# Altium schematic symbol library h_bridge.SchLib: 3 symbols
Pins are listed as number, name and electrical type; pins without a type are passive.

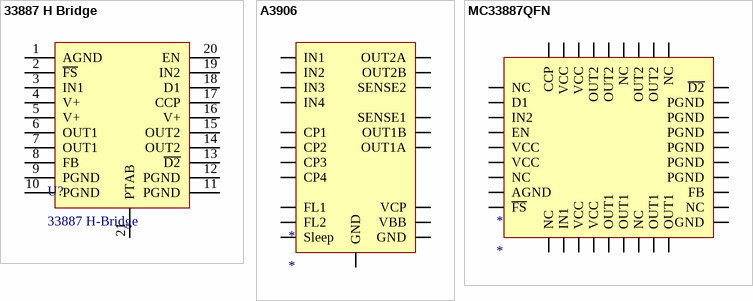
[diagram p0: symbols 33887 H Bridge to MC33887QFN]

## 33887 H Bridge
designator U?, comment 33887 H-Bridge
H-Bridge
footprint MC33887 (SOP, 20-Leads, Body 15.90x11.00mm, Pitch 1.27mm, Thermal Pad 12.60x7.20mm, IPC Medium Density)
pins: 1 AGND, 2 ~{FS}, 3 IN1, 4 V+, 5 V+, 6 OUT1, 7 OUT1, 8 FB, 9 PGND, 10 PGND, 11 PGND, 12 PGND, 13 ~{D2}, 14 OUT2, 15 OUT2, 16 V+, 17 CCP, 18 D1, 19 IN2, 20 EN, 21 PTAB

## A3906
designator *
footprint A3906-QFN
pins: 1 CP2, 2 GND, 3 Sleep, 4 IN1, 5 IN2, 6 IN3, 7 IN4, 8 FL1, 9 FL2, 10 OUT2A, 11 SENSE2, 12 OUT2B, 13 VBB, 14 OUT1B, 15 SENSE1, 16 OUT1A, 17 VCP, 18 CP3, 19 CP1, 20 CP4, 21 GND

## MC33887QFN
designator *
footprint MC33887-QFN (QFN, 32-Leads, Body 9.00x9.00mm, Pitch 0.80mm, Thermal Pad 6.00x6.00mm, IPC Medium Density)
pins: 1 NC, 2 D1, 3 IN2, 4 EN, 5 VCC, 6 VCC, 7 NC, 8 AGND, 9 ~{FS}, 10 NC, 11 IN1, 12 VCC, 13 VCC, 14 OUT1, 15 OUT1, 16 NC, 17 OUT1, 18 OUT1, 19 NC, 20 FB, 21 PGND, 22 PGND, 23 PGND, 24 PGND, 25 PGND, 26 PGND, 27 ~{D2}, 28 NC, 29 OUT2, 30 OUT2, 31 NC, 32 OUT2, 33 OUT2, 34 VCC, 35 VCC, 36 CCP, 37 GND